# EAGLE library part BQ25792RQMR (library CM4sch)
Power Supply Management Circuit, Adjustable, 1 Channel, 3.4, PQCC29
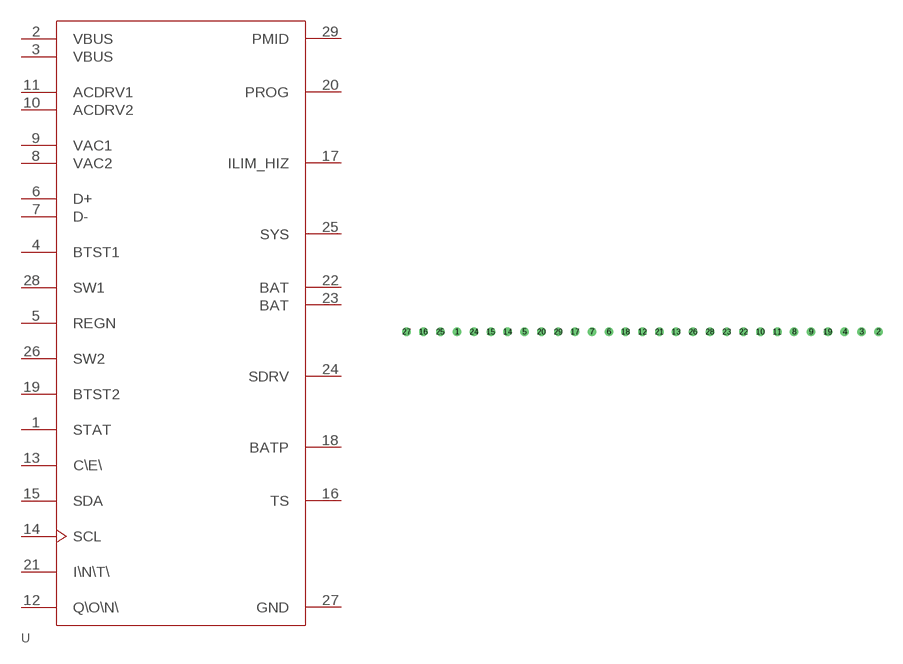
[diagram p0: symbol with the pads of BQ25792RQMR_FP-RQM0029A-MFG; footprint BQ25792RQMR_FP-RQM0029A-MFG]

Designator prefix U

## BQ25792RQMRBQ25792RQMR_BQ25792RQMR_FP-RQM0029A-MFG (CATEGORY: Battery Management; DESCRIPTION: Power Supply Management Circuit, Adjustable, 1 Channel, 3.4, PQCC29; MANUFACTURER: Texas Instruments; MANUFACTURER_PART_NUMBER: BQ25792RQMR; ROHS: Yes; ROHS_COMPLIANT: Yes; STOCK: 1625; SUPPLIER: Mouser; SUPPLIER_PART_NUMBER: 595-BQ25792RQMR)  [BQ25792RQMR_FP-RQM0029A-MFG]
1  STAT  out
2  VBUS  pwr
3  VBUS  pwr
4  BTST1  pwr
5  REGN  pwr
6  D+
7  D-
8  VAC2  pwr
9  VAC1  pwr
10  ACDRV2  pwr
11  ACDRV1  pwr
12  Q\O\N\  in
13  C\E\  in
14  SCL  in
15  SDA
16  TS  in
17  ILIM_HIZ  in
18  BATP  pwr
19  BTST2  pwr
20  PROG  in
21  I\N\T\  out
22  BAT  pwr
23  BAT  pwr
24  SDRV  pwr
25  SYS  pwr
26  SW2  pwr
27  GND  pwr
28  SW1  pwr
29  PMID  pwr

## Footprint BQ25792RQMR_FP-RQM0029A-MFG (pad centres in mm)
drill 0.127 pad 0.254 round: 1 3.81,0; 2 35.56,0; 3 34.29,0; 4 33.02,0; 5 8.89,0; 6 15.24,0; 7 13.97,0; 8 29.21,0; 9 30.48,0; 10 26.67,0; 11 27.94,0; 12 17.78,0; 13 20.32,0; 14 7.62,0; 15 6.35,0; 16 1.27,0; 17 12.7,0; 18 16.51,0; 19 31.75,0; 20 10.16,0; 21 19.05,0; 22 25.4,0; 23 24.13,0; 24 5.08,0; 25 2.54,0; 26 21.59,0; 27 0,0; 28 22.86,0; 29 11.43,0